# EAGLE library part SN74LVC1G18 (library arcadetv)
PNP TRANSISTOR
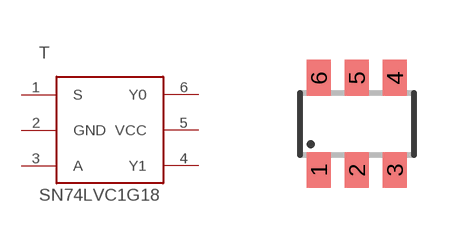
[diagram p5: symbol with the pads of SOT23-6; footprint SOT23-6]

Designator prefix T

## SN74LVC1G18 (MPN: ZXT13P12DE6; OC_FARNELL: 1471192RL; OC_NEWARK: 70K9269)  [SOT23-6]
1  S
2  GND
3  A
4  Y1
5  VCC
6  Y0

## Footprint SOT23-6 (pad centres in mm)
Small Outline Transistor 6 lead
smd 0.6 x 0.9: 1 -0.95,-1.15; 2 0,-1.15; 3 0.95,-1.15; 4 0.95,1.15; 5 0,1.15; 6 -0.95,1.15